# Altium integrated library 74HC595N_112.IntLib: 1 symbol
Pins are listed as number, name and electrical type; pins without a type are passive.

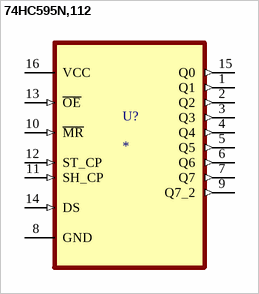
[diagram p0: symbol 74HC595N,112]

## 74HC595N,112
designator U?
Shift Shift Register 1 Element 8 Bit 16-DIP; MF: NXP USA; MP: 74HC595N,112; Purchase-URL: https://pricing.snapeda.com/search/part/74HC595N,112/?ref=eda; Package: SOT38-4-16 Nexperia; Value: *; Check_prices: https://www.snapeda.com/parts/74HC595N,112/NXP+USA+Inc./view-part/?ref=eda; SnapEDA_Link: https://www.snapeda.com/parts/74HC595N,112/NXP+USA+Inc./view-part/?ref=snap; Availability: In Stock; Price: None
footprint DIP254P762X420-16
pins: 1 Q1 (out), 2 Q2 (out), 3 Q3 (out), 4 Q4 (out), 5 Q5 (out), 6 Q6 (out), 7 Q7 (out), 8 GND, 9 Q7_2 (out), 10 ~{MR} (in), 11 SH_CP (in), 12 ST_CP (in), 13 ~{OE} (in), 14 DS (in), 15 Q0 (out), 16 VCC (power)